# Altium integrated library BB Converter Analog to Digital.IntLib: 242 symbols (part 5 of 6)
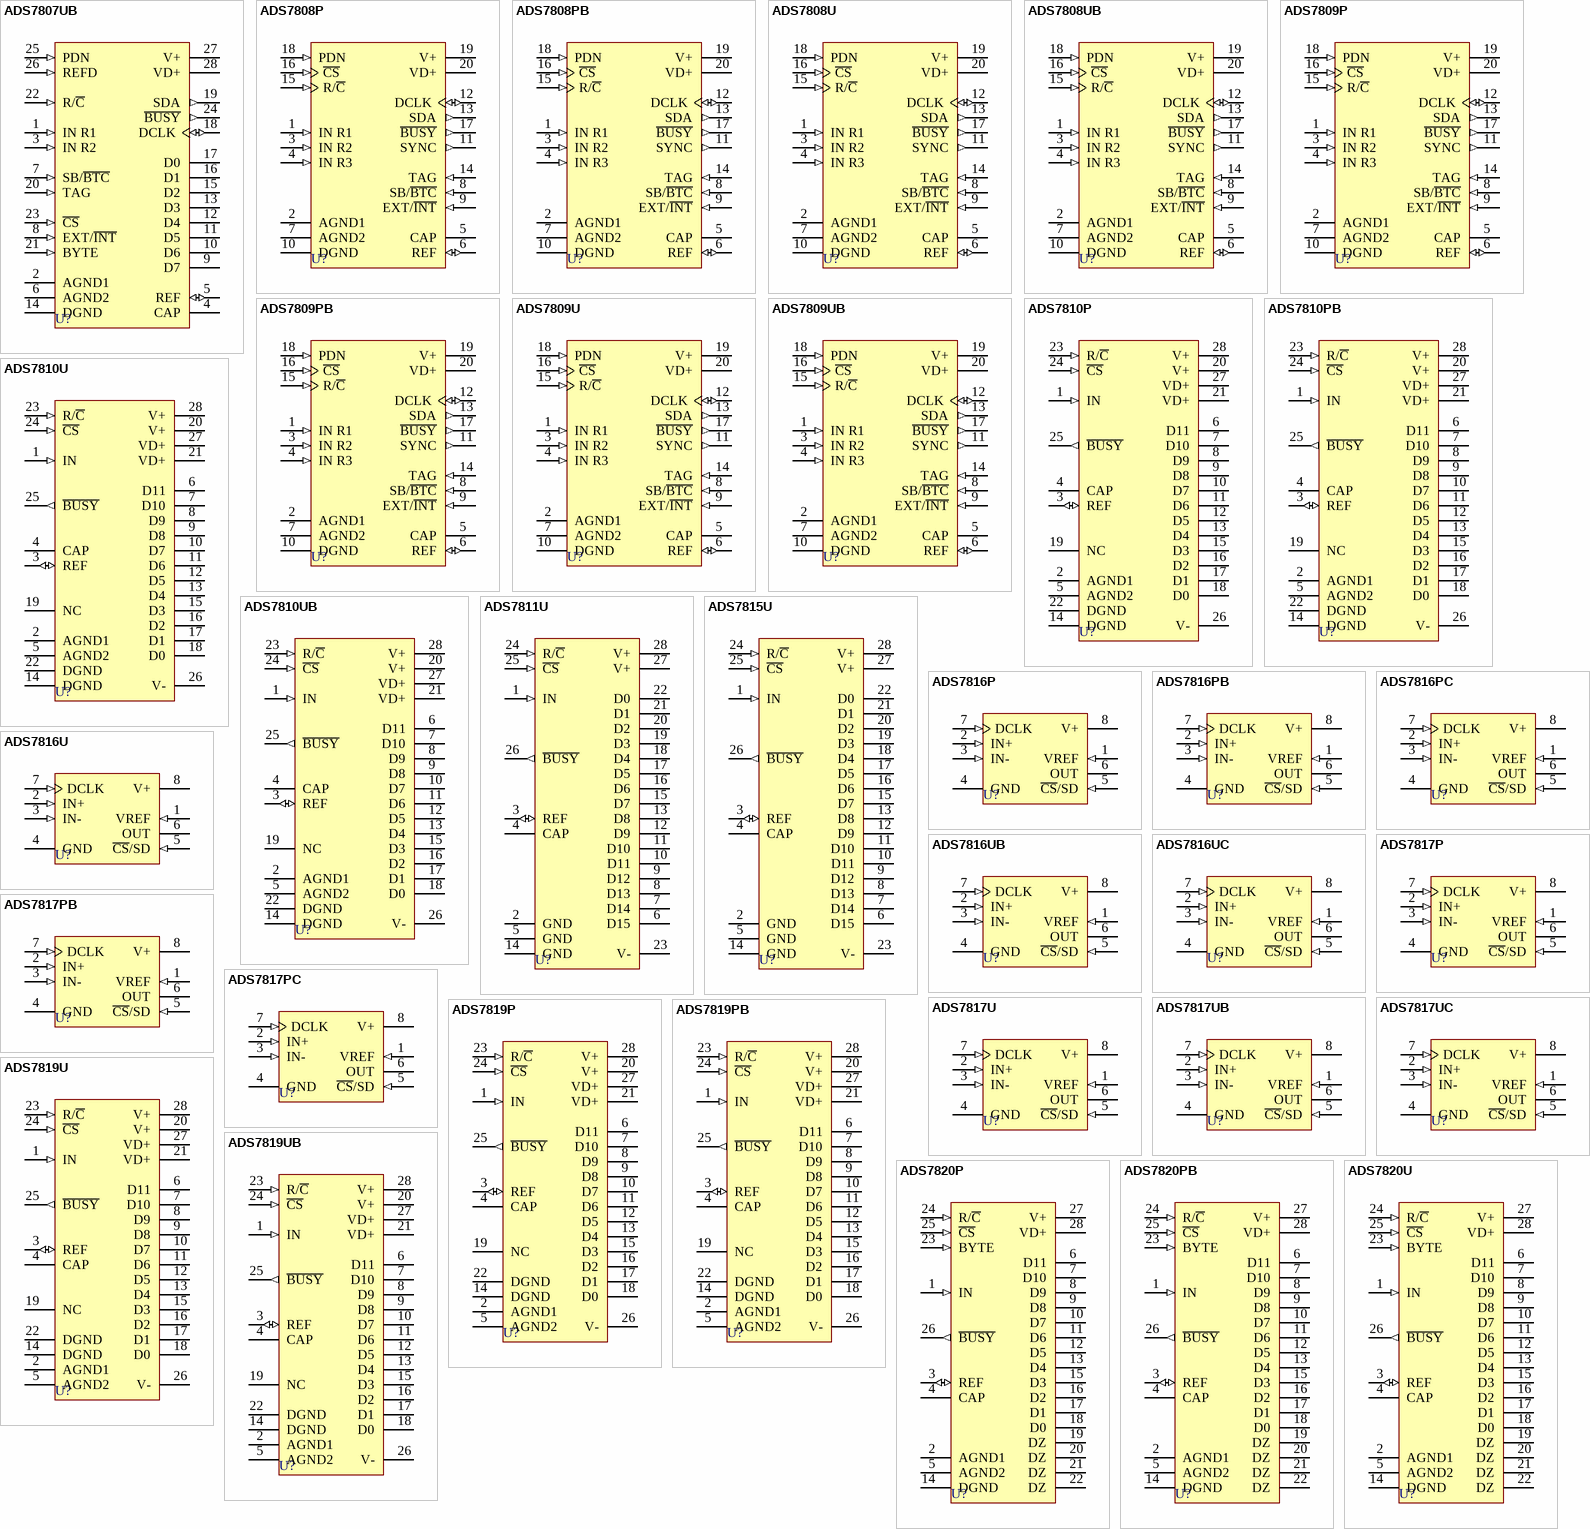
[diagram p13: symbols ADS7807UB to ADS7820U]

## ADS7817P
designator U?
12-Bit Differential Input Micro Power Sampling Analog-to-Digital Converter; Published: 8-Jun-2000; LatestRevisionDate: 06-Jun-2005; LatestRevisionNote: Stylized 3D Model Added.; DatasheetVersion: Mar-1997; PackageVersion: revE; PackageReference: 006E; Publisher: Altium Limited; PackageDescription: DIP; 8 Leads; Row Spacing 7.62 mm; Pitch 2.54 mm; ComponentLink1Description: Manufacturer Link; ComponentLink1URL: http://www.ti.com/; ComponentLink2Description: Datasheet; ComponentLink2URL: http://www-s.ti.com/sc/ds/ADS7817.pdf
footprint 006E (DIP; 8 Leads; Row Spacing 7.62 mm; Pitch 2.54 mm)
3D model DIP8 (DIP; 8 Leads; Row Spacing 7.62 mm; Pitch 2.54 mm)
pins: 1 VREF (in), 2 IN+ (in), 3 IN- (in), 4 GND (power), 5 ~{CS}/SD (in), 6 OUT (hiz), 7 DCLK (in), 8 V+ (power)

## ADS7817PB
designator U?
12-Bit Differential Input Micro Power Sampling Analog-to-Digital Converter; Published: 8-Jun-2000; LatestRevisionDate: 06-Jun-2005; LatestRevisionNote: Stylized 3D Model Added.; DatasheetVersion: Mar-1997; PackageVersion: revE; PackageReference: 006E; Publisher: Altium Limited; PackageDescription: DIP; 8 Leads; Row Spacing 7.62 mm; Pitch 2.54 mm; ComponentLink1Description: Manufacturer Link; ComponentLink1URL: http://www.ti.com/; ComponentLink2Description: Datasheet; ComponentLink2URL: http://www-s.ti.com/sc/ds/ADS7817.pdf
footprint 006E (DIP; 8 Leads; Row Spacing 7.62 mm; Pitch 2.54 mm)
3D model DIP8 (DIP; 8 Leads; Row Spacing 7.62 mm; Pitch 2.54 mm)
pins: 1 VREF (in), 2 IN+ (in), 3 IN- (in), 4 GND (power), 5 ~{CS}/SD (in), 6 OUT (hiz), 7 DCLK (in), 8 V+ (power)

## ADS7817PC
designator U?
12-Bit Differential Input Micro Power Sampling Analog-to-Digital Converter; Published: 8-Jun-2000; LatestRevisionDate: 06-Jun-2005; LatestRevisionNote: Stylized 3D Model Added.; DatasheetVersion: Mar-1997; PackageVersion: revE; PackageReference: 006E; Publisher: Altium Limited; PackageDescription: DIP; 8 Leads; Row Spacing 7.62 mm; Pitch 2.54 mm; ComponentLink1Description: Manufacturer Link; ComponentLink1URL: http://www.ti.com/; ComponentLink2Description: Datasheet; ComponentLink2URL: http://www-s.ti.com/sc/ds/ADS7817.pdf
footprint 006E (DIP; 8 Leads; Row Spacing 7.62 mm; Pitch 2.54 mm)
3D model DIP8 (DIP; 8 Leads; Row Spacing 7.62 mm; Pitch 2.54 mm)
pins: 1 VREF (in), 2 IN+ (in), 3 IN- (in), 4 GND (power), 5 ~{CS}/SD (in), 6 OUT (hiz), 7 DCLK (in), 8 V+ (power)

## ADS7817U
designator U?
12-Bit Differential Input Micro Power Sampling Analog-to-Digital Converter; Published: 8-Jun-2000; LatestRevisionDate: 13-Apr-2006; LatestRevisionNote: IPC-7351 Footprint Added.; DatasheetVersion: Mar-1997; PackageReference: 182H; Publisher: Altium Limited; PackageDescription: 8-Pin Small Outline Integrated Circuit 1.27 mm Pitch; Code_JEDEC: MS-012-AA; Code_IPC: SOIC127P600-8; ComponentLink1Description: Manufacturer Link; ComponentLink1URL: http://www.ti.com/; ComponentLink2Description: Datasheet; ComponentLink2URL: http://www-s.ti.com/sc/ds/ADS7817.pdf
footprint 182H_N (SOIC, 8-Leads, Body 4.9x3.9mm, Pitch 1.27mm, IPC Medium Density)
footprint 182H_L (SOIC, 8-Leads, Body 4.9x3.9mm, Pitch 1.27mm, IPC High Density)
footprint 182H_M (SOIC, 8-Leads, Body 4.9x3.9mm, Pitch 1.27mm, IPC Low Density)
3D model SOIC8 (8-Pin Small Outline Integrated Circuit 1.27 mm Pitch)
pins: 1 VREF (in), 2 IN+ (in), 3 IN- (in), 4 GND (power), 5 ~{CS}/SD (in), 6 OUT (hiz), 7 DCLK (in), 8 V+ (power)

## ADS7817UB
designator U?
12-Bit Differential Input Micro Power Sampling Analog-to-Digital Converter; Published: 8-Jun-2000; LatestRevisionDate: 13-Apr-2006; LatestRevisionNote: IPC-7351 Footprint Added.; DatasheetVersion: Mar-1997; PackageReference: 182H; Publisher: Altium Limited; PackageDescription: 8-Pin Small Outline Integrated Circuit 1.27 mm Pitch; Code_JEDEC: MS-012-AA; Code_IPC: SOIC127P600-8; ComponentLink1Description: Manufacturer Link; ComponentLink1URL: http://www.ti.com/; ComponentLink2Description: Datasheet; ComponentLink2URL: http://www-s.ti.com/sc/ds/ADS7817.pdf
footprint 182H_N (SOIC, 8-Leads, Body 4.9x3.9mm, Pitch 1.27mm, IPC Medium Density)
footprint 182H_L (SOIC, 8-Leads, Body 4.9x3.9mm, Pitch 1.27mm, IPC High Density)
footprint 182H_M (SOIC, 8-Leads, Body 4.9x3.9mm, Pitch 1.27mm, IPC Low Density)
3D model SOIC8 (8-Pin Small Outline Integrated Circuit 1.27 mm Pitch)
pins: 1 VREF (in), 2 IN+ (in), 3 IN- (in), 4 GND (power), 5 ~{CS}/SD (in), 6 OUT (hiz), 7 DCLK (in), 8 V+ (power)

## ADS7817UC
designator U?
12-Bit Differential Input Micro Power Sampling Analog-to-Digital Converter; Published: 8-Jun-2000; LatestRevisionDate: 13-Apr-2006; LatestRevisionNote: IPC-7351 Footprint Added.; DatasheetVersion: Mar-1997; PackageReference: 182H; Publisher: Altium Limited; PackageDescription: 8-Pin Small Outline Integrated Circuit 1.27 mm Pitch; Code_JEDEC: MS-012-AA; Code_IPC: SOIC127P600-8; ComponentLink1Description: Manufacturer Link; ComponentLink1URL: http://www.ti.com/; ComponentLink2Description: Datasheet; ComponentLink2URL: http://www-s.ti.com/sc/ds/ADS7817.pdf
footprint 182H_N (SOIC, 8-Leads, Body 4.9x3.9mm, Pitch 1.27mm, IPC Medium Density)
footprint 182H_L (SOIC, 8-Leads, Body 4.9x3.9mm, Pitch 1.27mm, IPC High Density)
footprint 182H_M (SOIC, 8-Leads, Body 4.9x3.9mm, Pitch 1.27mm, IPC Low Density)
3D model SOIC8 (8-Pin Small Outline Integrated Circuit 1.27 mm Pitch)
pins: 1 VREF (in), 2 IN+ (in), 3 IN- (in), 4 GND (power), 5 ~{CS}/SD (in), 6 OUT (hiz), 7 DCLK (in), 8 V+ (power)

## ADS7819P
designator U?
12-Bit 800KHz Sampling CMOS Analog-to-Digital Converter; Note: Pin 19 is No internal Connection (NC) pin.; Published: 8-Jun-2000; LatestRevisionDate: 06-Jun-2005; LatestRevisionNote: Stylized 3D Model Added.; DatasheetVersion: Feb-1995; PackageVersion: revD; PackageReference: 246D; Publisher: Altium Limited; PackageDescription: DIP; 28 Leads; Row Spacing 7.62 mm; Pitch 2.54 mm; ComponentLink1Description: Manufacturer Link; ComponentLink1URL: http://www.ti.com/; ComponentLink2Description: Datasheet; ComponentLink2URL: http://www-s.ti.com/sc/ds/ADS7819.pdf
footprint 246D (DIP; 28 Leads; Row Spacing 7.62 mm; Pitch 2.54 mm)
3D model 246D (DIP; 28 Leads; Row Spacing 7.62 mm; Pitch 2.54 mm)
pins: 1 IN (in), 2 AGND1 (power), 3 REF (io), 4 CAP, 5 AGND2 (power), 6 D11 (hiz), 7 D10 (hiz), 8 D9 (hiz), 9 D8 (hiz), 10 D7 (hiz), 11 D6 (hiz), 12 D5 (hiz), 13 D4 (hiz), 14 DGND (power), 15 D3 (hiz), 16 D2 (hiz), 17 D1 (hiz), 18 D0 (hiz), 19 NC, 20 V+ (power), 21 VD+ (power), 22 DGND (power), 23 R/~{C} (in), 24 ~{CS} (in), 25 ~{BUSY} (out), 26 V- (power), 27 VD+ (power), 28 V+ (power)

## ADS7819PB
designator U?
12-Bit 800KHz Sampling CMOS Analog-to-Digital Converter; Note: Pin 19 is No internal Connection (NC) pin.; Published: 8-Jun-2000; LatestRevisionDate: 06-Jun-2005; LatestRevisionNote: Stylized 3D Model Added.; DatasheetVersion: Feb-1995; PackageVersion: revD; PackageReference: 246D; Publisher: Altium Limited; PackageDescription: DIP; 28 Leads; Row Spacing 7.62 mm; Pitch 2.54 mm; ComponentLink1Description: Manufacturer Link; ComponentLink1URL: http://www.ti.com/; ComponentLink2Description: Datasheet; ComponentLink2URL: http://www-s.ti.com/sc/ds/ADS7819.pdf
footprint 246D (DIP; 28 Leads; Row Spacing 7.62 mm; Pitch 2.54 mm)
3D model 246D (DIP; 28 Leads; Row Spacing 7.62 mm; Pitch 2.54 mm)
pins: 1 IN (in), 2 AGND1 (power), 3 REF (io), 4 CAP, 5 AGND2 (power), 6 D11 (hiz), 7 D10 (hiz), 8 D9 (hiz), 9 D8 (hiz), 10 D7 (hiz), 11 D6 (hiz), 12 D5 (hiz), 13 D4 (hiz), 14 DGND (power), 15 D3 (hiz), 16 D2 (hiz), 17 D1 (hiz), 18 D0 (hiz), 19 NC, 20 V+ (power), 21 VD+ (power), 22 DGND (power), 23 R/~{C} (in), 24 ~{CS} (in), 25 ~{BUSY} (out), 26 V- (power), 27 VD+ (power), 28 V+ (power)

## ADS7819U
designator U?
12-Bit 800KHz Sampling CMOS Analog-to-Digital Converter; Note: Pin 19 is No internal Connection (NC) pin.; Published: 8-Jun-2000; LatestRevisionDate: 13-Apr-2006; LatestRevisionNote: IPC-7351 Footprint Added.; DatasheetVersion: Feb-1995; PackageReference: 217G; Publisher: Altium Limited; PackageDescription: 28-Pin Small Outline Integrated Circuit 1.27 mm Pitch; ComponentLink1Description: Manufacturer Link; ComponentLink1URL: http://www.ti.com/; ComponentLink2Description: Datasheet; ComponentLink2URL: http://www-s.ti.com/sc/ds/ADS7819.pdf
footprint 217G_N (SOIC, 28-Leads, Body 17.9x7.5mm, Pitch 1.27mm, IPC Medium Density)
footprint 217G_L (SOIC, 28-Leads, Body 17.9x7.5mm, Pitch 1.27mm, IPC High Density)
footprint 217G_M (SOIC, 28-Leads, Body 17.9x7.5mm, Pitch 1.27mm, IPC Low Density)
3D model 217G (28-Pin Small Outline Integrated Circuit 1.27 mm Pitch)
pins: 1 IN (in), 2 AGND1 (power), 3 REF (io), 4 CAP, 5 AGND2 (power), 6 D11 (hiz), 7 D10 (hiz), 8 D9 (hiz), 9 D8 (hiz), 10 D7 (hiz), 11 D6 (hiz), 12 D5 (hiz), 13 D4 (hiz), 14 DGND (power), 15 D3 (hiz), 16 D2 (hiz), 17 D1 (hiz), 18 D0 (hiz), 19 NC, 20 V+ (power), 21 VD+ (power), 22 DGND (power), 23 R/~{C} (in), 24 ~{CS} (in), 25 ~{BUSY} (out), 26 V- (power), 27 VD+ (power), 28 V+ (power)

## ADS7819UB
designator U?
12-Bit 800KHz Sampling CMOS Analog-to-Digital Converter; Note: Pin 19 is No internal Connection (NC) pin.; Published: 8-Jun-2000; LatestRevisionDate: 13-Apr-2006; LatestRevisionNote: IPC-7351 Footprint Added.; DatasheetVersion: Feb-1995; PackageReference: 217G; Publisher: Altium Limited; PackageDescription: 28-Pin Small Outline Integrated Circuit 1.27 mm Pitch; ComponentLink1Description: Manufacturer Link; ComponentLink1URL: http://www.ti.com/; ComponentLink2Description: Datasheet; ComponentLink2URL: http://www-s.ti.com/sc/ds/ADS7819.pdf
footprint 217G_N (SOIC, 28-Leads, Body 17.9x7.5mm, Pitch 1.27mm, IPC Medium Density)
footprint 217G_L (SOIC, 28-Leads, Body 17.9x7.5mm, Pitch 1.27mm, IPC High Density)
footprint 217G_M (SOIC, 28-Leads, Body 17.9x7.5mm, Pitch 1.27mm, IPC Low Density)
3D model 217G (28-Pin Small Outline Integrated Circuit 1.27 mm Pitch)
pins: 1 IN (in), 2 AGND1 (power), 3 REF (io), 4 CAP, 5 AGND2 (power), 6 D11 (hiz), 7 D10 (hiz), 8 D9 (hiz), 9 D8 (hiz), 10 D7 (hiz), 11 D6 (hiz), 12 D5 (hiz), 13 D4 (hiz), 14 DGND (power), 15 D3 (hiz), 16 D2 (hiz), 17 D1 (hiz), 18 D0 (hiz), 19 NC, 20 V+ (power), 21 VD+ (power), 22 DGND (power), 23 R/~{C} (in), 24 ~{CS} (in), 25 ~{BUSY} (out), 26 V- (power), 27 VD+ (power), 28 V+ (power)

## ADS7820P
designator U?
12-Bit 10us Sampling CMOS Analog-to-Digital Converter; Published: 8-Jun-2000; LatestRevisionDate: 06-Jun-2005; LatestRevisionNote: Stylized 3D Model Added.; DatasheetVersion: Jun-1996; PackageVersion: revD; PackageReference: 246D; Publisher: Altium Limited; PackageDescription: DIP; 28 Leads; Row Spacing 7.62 mm; Pitch 2.54 mm; ComponentLink1Description: Manufacturer Link; ComponentLink1URL: http://www.ti.com/; ComponentLink2Description: Datasheet; ComponentLink2URL: http://www-s.ti.com/sc/ds/ADS7820.pdf
footprint 246D (DIP; 28 Leads; Row Spacing 7.62 mm; Pitch 2.54 mm)
3D model 246D (DIP; 28 Leads; Row Spacing 7.62 mm; Pitch 2.54 mm)
pins: 1 IN (in), 2 AGND1 (power), 3 REF (io), 4 CAP, 5 AGND2 (power), 6 D11 (hiz), 7 D10 (hiz), 8 D9 (hiz), 9 D8 (hiz), 10 D7 (hiz), 11 D6 (hiz), 12 D5 (hiz), 13 D4 (hiz), 14 DGND (power), 15 D3 (hiz), 16 D2 (hiz), 17 D1 (hiz), 18 D0 (hiz), 19 DZ (hiz), 20 DZ (hiz), 21 DZ (hiz), 22 DZ (hiz), 23 BYTE (in), 24 R/~{C} (in), 25 ~{CS} (in), 26 ~{BUSY} (out), 27 V+ (power), 28 VD+ (power)

## ADS7820PB
designator U?
12-Bit 10us Sampling CMOS Analog-to-Digital Converter; Published: 8-Jun-2000; LatestRevisionDate: 06-Jun-2005; LatestRevisionNote: Stylized 3D Model Added.; DatasheetVersion: Jun-1996; PackageVersion: revD; PackageReference: 246D; Publisher: Altium Limited; PackageDescription: DIP; 28 Leads; Row Spacing 7.62 mm; Pitch 2.54 mm; ComponentLink1Description: Manufacturer Link; ComponentLink1URL: http://www.ti.com/; ComponentLink2Description: Datasheet; ComponentLink2URL: http://www-s.ti.com/sc/ds/ADS7820.pdf
footprint 246D (DIP; 28 Leads; Row Spacing 7.62 mm; Pitch 2.54 mm)
3D model 246D (DIP; 28 Leads; Row Spacing 7.62 mm; Pitch 2.54 mm)
pins: 1 IN (in), 2 AGND1 (power), 3 REF (io), 4 CAP, 5 AGND2 (power), 6 D11 (hiz), 7 D10 (hiz), 8 D9 (hiz), 9 D8 (hiz), 10 D7 (hiz), 11 D6 (hiz), 12 D5 (hiz), 13 D4 (hiz), 14 DGND (power), 15 D3 (hiz), 16 D2 (hiz), 17 D1 (hiz), 18 D0 (hiz), 19 DZ (hiz), 20 DZ (hiz), 21 DZ (hiz), 22 DZ (hiz), 23 BYTE (in), 24 R/~{C} (in), 25 ~{CS} (in), 26 ~{BUSY} (out), 27 V+ (power), 28 VD+ (power)

## ADS7820U
designator U?
12-Bit 10us Sampling CMOS Analog-to-Digital Converter; Published: 8-Jun-2000; LatestRevisionDate: 13-Apr-2006; LatestRevisionNote: IPC-7351 Footprint Added.; DatasheetVersion: Jun-1996; PackageReference: 217G; Publisher: Altium Limited; PackageDescription: 28-Pin Small Outline Integrated Circuit 1.27 mm Pitch; ComponentLink1Description: Manufacturer Link; ComponentLink1URL: http://www.ti.com/; ComponentLink2Description: Datasheet; ComponentLink2URL: http://www-s.ti.com/sc/ds/ADS7820.pdf
footprint 217G_N (SOIC, 28-Leads, Body 17.9x7.5mm, Pitch 1.27mm, IPC Medium Density)
footprint 217G_L (SOIC, 28-Leads, Body 17.9x7.5mm, Pitch 1.27mm, IPC High Density)
footprint 217G_M (SOIC, 28-Leads, Body 17.9x7.5mm, Pitch 1.27mm, IPC Low Density)
3D model 217G (28-Pin Small Outline Integrated Circuit 1.27 mm Pitch)
pins: 1 IN (in), 2 AGND1 (power), 3 REF (io), 4 CAP, 5 AGND2 (power), 6 D11 (hiz), 7 D10 (hiz), 8 D9 (hiz), 9 D8 (hiz), 10 D7 (hiz), 11 D6 (hiz), 12 D5 (hiz), 13 D4 (hiz), 14 DGND (power), 15 D3 (hiz), 16 D2 (hiz), 17 D1 (hiz), 18 D0 (hiz), 19 DZ (hiz), 20 DZ (hiz), 21 DZ (hiz), 22 DZ (hiz), 23 BYTE (in), 24 R/~{C} (in), 25 ~{CS} (in), 26 ~{BUSY} (out), 27 V+ (power), 28 VD+ (power)

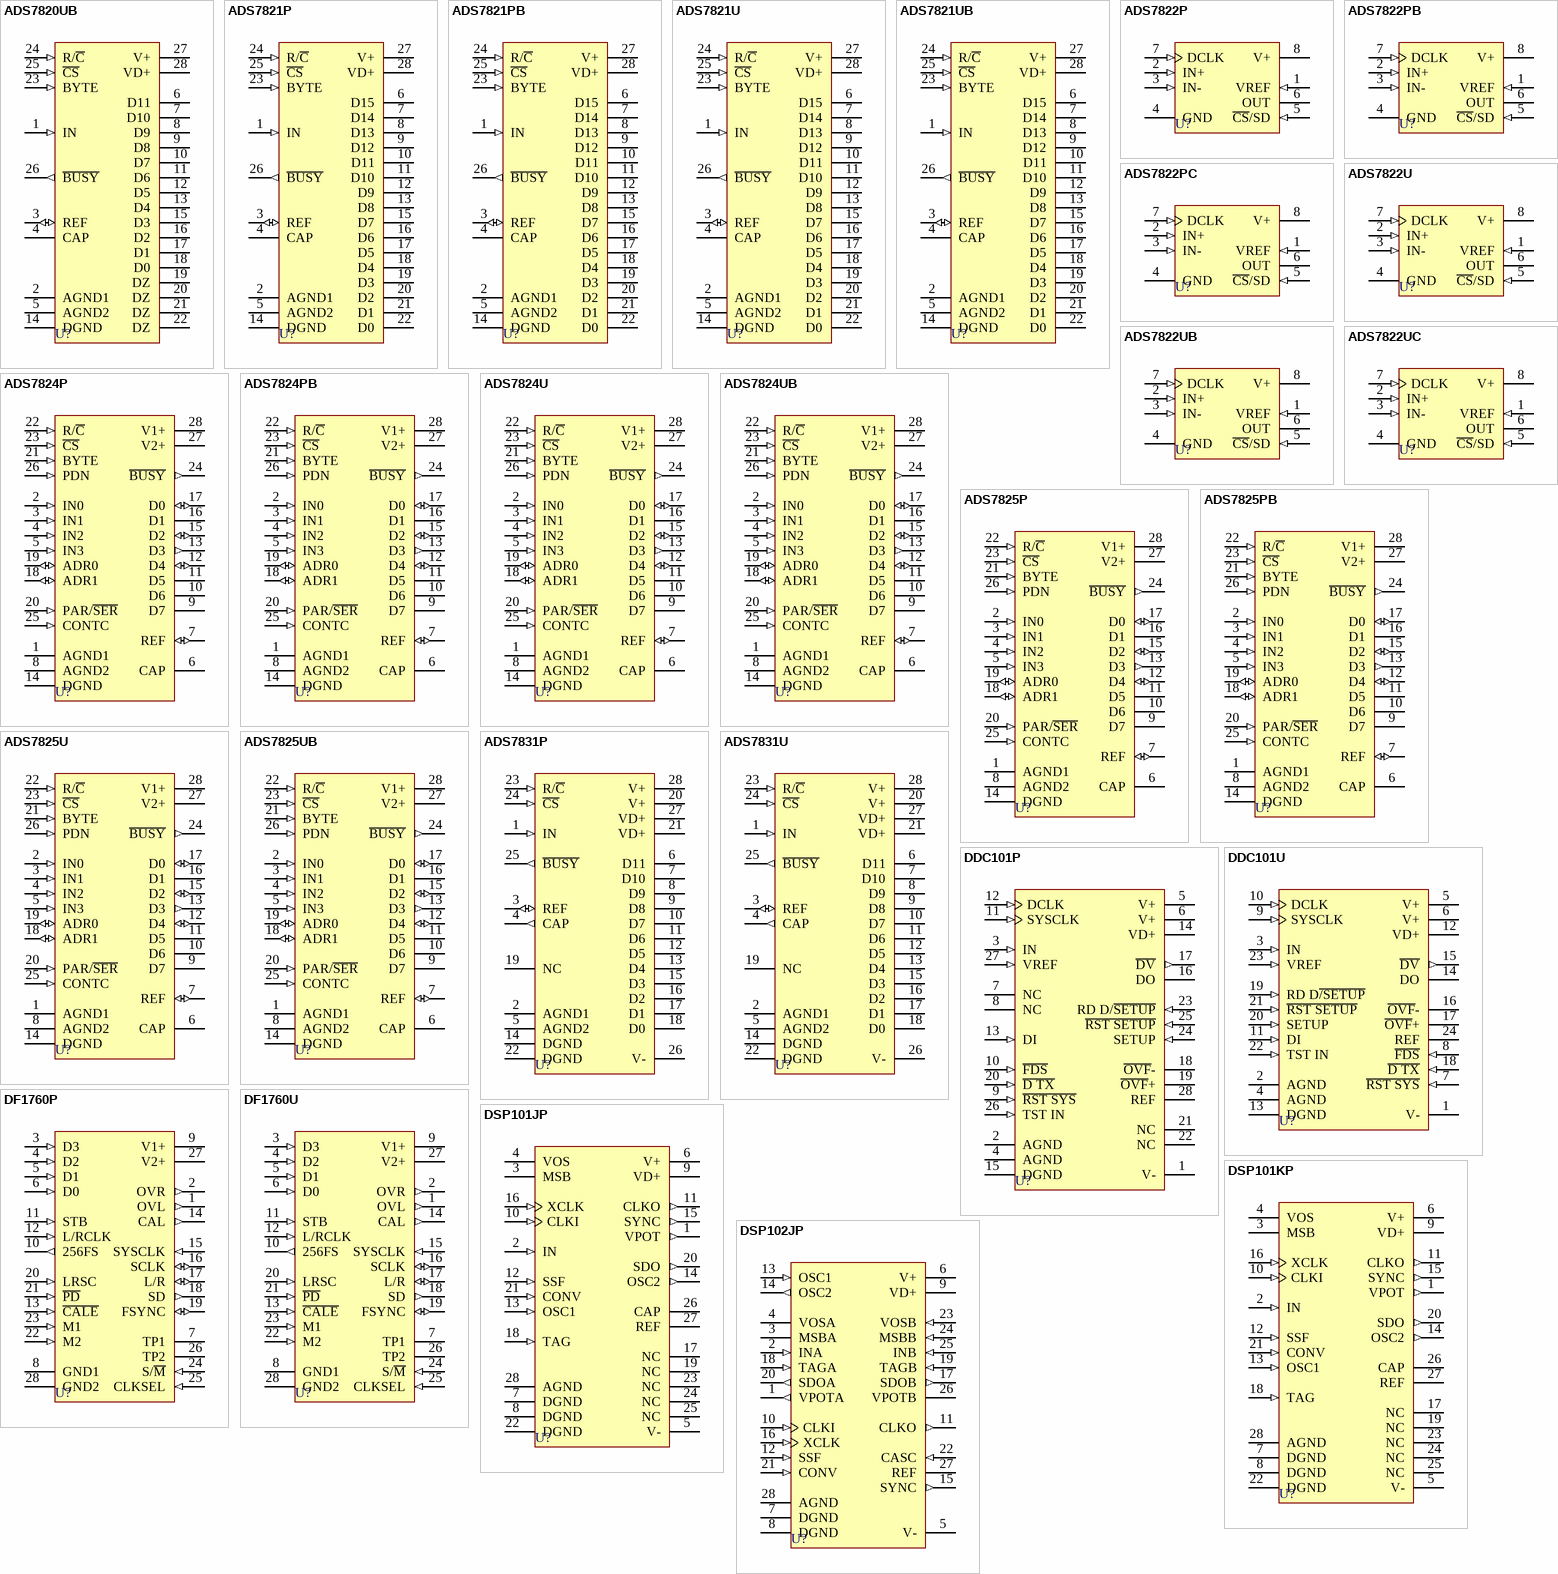
[diagram p8: symbols ADS7820UB to DSP102JP]

## ADS7820UB
designator U?
12-Bit 10us Sampling CMOS Analog-to-Digital Converter; Published: 8-Jun-2000; LatestRevisionDate: 13-Apr-2006; LatestRevisionNote: IPC-7351 Footprint Added.; DatasheetVersion: Jun-1996; PackageReference: 217G; Publisher: Altium Limited; PackageDescription: 28-Pin Small Outline Integrated Circuit 1.27 mm Pitch; ComponentLink1Description: Manufacturer Link; ComponentLink1URL: http://www.ti.com/; ComponentLink2Description: Datasheet; ComponentLink2URL: http://www-s.ti.com/sc/ds/ADS7820.pdf
footprint 217G_N (SOIC, 28-Leads, Body 17.9x7.5mm, Pitch 1.27mm, IPC Medium Density)
footprint 217G_L (SOIC, 28-Leads, Body 17.9x7.5mm, Pitch 1.27mm, IPC High Density)
footprint 217G_M (SOIC, 28-Leads, Body 17.9x7.5mm, Pitch 1.27mm, IPC Low Density)
3D model 217G (28-Pin Small Outline Integrated Circuit 1.27 mm Pitch)
pins: 1 IN (in), 2 AGND1 (power), 3 REF (io), 4 CAP, 5 AGND2 (power), 6 D11 (hiz), 7 D10 (hiz), 8 D9 (hiz), 9 D8 (hiz), 10 D7 (hiz), 11 D6 (hiz), 12 D5 (hiz), 13 D4 (hiz), 14 DGND (power), 15 D3 (hiz), 16 D2 (hiz), 17 D1 (hiz), 18 D0 (hiz), 19 DZ (hiz), 20 DZ (hiz), 21 DZ (hiz), 22 DZ (hiz), 23 BYTE (in), 24 R/~{C} (in), 25 ~{CS} (in), 26 ~{BUSY} (out), 27 V+ (power), 28 VD+ (power)

## ADS7821P
designator U?
16-Bit 10us Sampling CMOS Analog-to-Digital Converter; Published: 8-Jun-2000; LatestRevisionDate: 06-Jun-2005; LatestRevisionNote: Stylized 3D Model Added.; DatasheetVersion: Jun-1996; PackageVersion: revD; PackageReference: 246D; Publisher: Altium Limited; PackageDescription: DIP; 28 Leads; Row Spacing 7.62 mm; Pitch 2.54 mm; ComponentLink1Description: Manufacturer Link; ComponentLink1URL: http://www.ti.com/; ComponentLink2Description: Datasheet; ComponentLink2URL: http://www-s.ti.com/sc/ds/ADS7821.pdf
footprint 246D (DIP; 28 Leads; Row Spacing 7.62 mm; Pitch 2.54 mm)
3D model 246D (DIP; 28 Leads; Row Spacing 7.62 mm; Pitch 2.54 mm)
pins: 1 IN (in), 2 AGND1 (power), 3 REF (io), 4 CAP, 5 AGND2 (power), 6 D15 (hiz), 7 D14 (hiz), 8 D13 (hiz), 9 D12 (hiz), 10 D11 (hiz), 11 D10 (hiz), 12 D9 (hiz), 13 D8 (hiz), 14 DGND (power), 15 D7 (hiz), 16 D6 (hiz), 17 D5 (hiz), 18 D4 (hiz), 19 D3 (hiz), 20 D2 (hiz), 21 D1 (hiz), 22 D0 (hiz), 23 BYTE (in), 24 R/~{C} (in), 25 ~{CS} (in), 26 ~{BUSY} (out), 27 V+ (power), 28 VD+ (power)

## ADS7821PB
designator U?
16-Bit 10us Sampling CMOS Analog-to-Digital Converter; Published: 8-Jun-2000; LatestRevisionDate: 06-Jun-2005; LatestRevisionNote: Stylized 3D Model Added.; DatasheetVersion: Jun-1996; PackageVersion: revD; PackageReference: 246D; Publisher: Altium Limited; PackageDescription: DIP; 28 Leads; Row Spacing 7.62 mm; Pitch 2.54 mm; ComponentLink1Description: Manufacturer Link; ComponentLink1URL: http://www.ti.com/; ComponentLink2Description: Datasheet; ComponentLink2URL: http://www-s.ti.com/sc/ds/ADS7821.pdf
footprint 246D (DIP; 28 Leads; Row Spacing 7.62 mm; Pitch 2.54 mm)
3D model 246D (DIP; 28 Leads; Row Spacing 7.62 mm; Pitch 2.54 mm)
pins: 1 IN (in), 2 AGND1 (power), 3 REF (io), 4 CAP, 5 AGND2 (power), 6 D15 (hiz), 7 D14 (hiz), 8 D13 (hiz), 9 D12 (hiz), 10 D11 (hiz), 11 D10 (hiz), 12 D9 (hiz), 13 D8 (hiz), 14 DGND (power), 15 D7 (hiz), 16 D6 (hiz), 17 D5 (hiz), 18 D4 (hiz), 19 D3 (hiz), 20 D2 (hiz), 21 D1 (hiz), 22 D0 (hiz), 23 BYTE (in), 24 R/~{C} (in), 25 ~{CS} (in), 26 ~{BUSY} (out), 27 V+ (power), 28 VD+ (power)

## ADS7821U
designator U?
16-Bit 10us Sampling CMOS Analog-to-Digital Converter; Published: 8-Jun-2000; LatestRevisionDate: 13-Apr-2006; LatestRevisionNote: IPC-7351 Footprint Added.; DatasheetVersion: Jun-1996; PackageReference: 217G; Publisher: Altium Limited; PackageDescription: 28-Pin Small Outline Integrated Circuit 1.27 mm Pitch; ComponentLink1Description: Manufacturer Link; ComponentLink1URL: http://www.ti.com/; ComponentLink2Description: Datasheet; ComponentLink2URL: http://www-s.ti.com/sc/ds/ADS7821.pdf
footprint 217G_N (SOIC, 28-Leads, Body 17.9x7.5mm, Pitch 1.27mm, IPC Medium Density)
footprint 217G_L (SOIC, 28-Leads, Body 17.9x7.5mm, Pitch 1.27mm, IPC High Density)
footprint 217G_M (SOIC, 28-Leads, Body 17.9x7.5mm, Pitch 1.27mm, IPC Low Density)
3D model 217G (28-Pin Small Outline Integrated Circuit 1.27 mm Pitch)
pins: 1 IN (in), 2 AGND1 (power), 3 REF (io), 4 CAP, 5 AGND2 (power), 6 D15 (hiz), 7 D14 (hiz), 8 D13 (hiz), 9 D12 (hiz), 10 D11 (hiz), 11 D10 (hiz), 12 D9 (hiz), 13 D8 (hiz), 14 DGND (power), 15 D7 (hiz), 16 D6 (hiz), 17 D5 (hiz), 18 D4 (hiz), 19 D3 (hiz), 20 D2 (hiz), 21 D1 (hiz), 22 D0 (hiz), 23 BYTE (in), 24 R/~{C} (in), 25 ~{CS} (in), 26 ~{BUSY} (out), 27 V+ (power), 28 VD+ (power)

## ADS7821UB
designator U?
16-Bit 10us Sampling CMOS Analog-to-Digital Converter; Published: 8-Jun-2000; LatestRevisionDate: 13-Apr-2006; LatestRevisionNote: IPC-7351 Footprint Added.; DatasheetVersion: Jun-1996; PackageReference: 217G; Publisher: Altium Limited; PackageDescription: 28-Pin Small Outline Integrated Circuit 1.27 mm Pitch; ComponentLink1Description: Manufacturer Link; ComponentLink1URL: http://www.ti.com/; ComponentLink2Description: Datasheet; ComponentLink2URL: http://www-s.ti.com/sc/ds/ADS7821.pdf
footprint 217G_N (SOIC, 28-Leads, Body 17.9x7.5mm, Pitch 1.27mm, IPC Medium Density)
footprint 217G_L (SOIC, 28-Leads, Body 17.9x7.5mm, Pitch 1.27mm, IPC High Density)
footprint 217G_M (SOIC, 28-Leads, Body 17.9x7.5mm, Pitch 1.27mm, IPC Low Density)
3D model 217G (28-Pin Small Outline Integrated Circuit 1.27 mm Pitch)
pins: 1 IN (in), 2 AGND1 (power), 3 REF (io), 4 CAP, 5 AGND2 (power), 6 D15 (hiz), 7 D14 (hiz), 8 D13 (hiz), 9 D12 (hiz), 10 D11 (hiz), 11 D10 (hiz), 12 D9 (hiz), 13 D8 (hiz), 14 DGND (power), 15 D7 (hiz), 16 D6 (hiz), 17 D5 (hiz), 18 D4 (hiz), 19 D3 (hiz), 20 D2 (hiz), 21 D1 (hiz), 22 D0 (hiz), 23 BYTE (in), 24 R/~{C} (in), 25 ~{CS} (in), 26 ~{BUSY} (out), 27 V+ (power), 28 VD+ (power)

## ADS7822P
designator U?
12-Bit High-Speed 2.7V Micro Power Sampling Analog-to-Digital Converter; Published: 8-Jun-2000; LatestRevisionDate: 06-Jun-2005; LatestRevisionNote: Stylized 3D Model Added.; DatasheetVersion: Mar-1997; PackageVersion: revE; PackageReference: 006E; Publisher: Altium Limited; PackageDescription: DIP; 8 Leads; Row Spacing 7.62 mm; Pitch 2.54 mm; ComponentLink1Description: Manufacturer Link; ComponentLink1URL: http://www.ti.com/; ComponentLink2Description: Datasheet; ComponentLink2URL: http://www-s.ti.com/sc/ds/ADS7822.pdf
footprint 006E (DIP; 8 Leads; Row Spacing 7.62 mm; Pitch 2.54 mm)
3D model DIP8 (DIP; 8 Leads; Row Spacing 7.62 mm; Pitch 2.54 mm)
pins: 1 VREF (in), 2 IN+ (in), 3 IN- (in), 4 GND (power), 5 ~{CS}/SD (in), 6 OUT (hiz), 7 DCLK (in), 8 V+ (power)

## ADS7822PB
designator U?
12-Bit High-Speed 2.7V Micro Power Sampling Analog-to-Digital Converter; Published: 8-Jun-2000; LatestRevisionDate: 06-Jun-2005; LatestRevisionNote: Stylized 3D Model Added.; DatasheetVersion: Mar-1997; PackageVersion: revE; PackageReference: 006E; Publisher: Altium Limited; PackageDescription: DIP; 8 Leads; Row Spacing 7.62 mm; Pitch 2.54 mm; ComponentLink1Description: Manufacturer Link; ComponentLink1URL: http://www.ti.com/; ComponentLink2Description: Datasheet; ComponentLink2URL: http://www-s.ti.com/sc/ds/ADS7822.pdf
footprint 006E (DIP; 8 Leads; Row Spacing 7.62 mm; Pitch 2.54 mm)
3D model DIP8 (DIP; 8 Leads; Row Spacing 7.62 mm; Pitch 2.54 mm)
pins: 1 VREF (in), 2 IN+ (in), 3 IN- (in), 4 GND (power), 5 ~{CS}/SD (in), 6 OUT (hiz), 7 DCLK (in), 8 V+ (power)

## ADS7822PC
designator U?
12-Bit High-Speed 2.7V Micro Power Sampling Analog-to-Digital Converter; Published: 8-Jun-2000; LatestRevisionDate: 06-Jun-2005; LatestRevisionNote: Stylized 3D Model Added.; DatasheetVersion: Mar-1997; PackageVersion: revE; PackageReference: 006E; Publisher: Altium Limited; PackageDescription: DIP; 8 Leads; Row Spacing 7.62 mm; Pitch 2.54 mm; ComponentLink1Description: Manufacturer Link; ComponentLink1URL: http://www.ti.com/; ComponentLink2Description: Datasheet; ComponentLink2URL: http://www-s.ti.com/sc/ds/ADS7822.pdf
footprint 006E (DIP; 8 Leads; Row Spacing 7.62 mm; Pitch 2.54 mm)
3D model DIP8 (DIP; 8 Leads; Row Spacing 7.62 mm; Pitch 2.54 mm)
pins: 1 VREF (in), 2 IN+ (in), 3 IN- (in), 4 GND (power), 5 ~{CS}/SD (in), 6 OUT (hiz), 7 DCLK (in), 8 V+ (power)

## ADS7822U
designator U?
12-Bit High-Speed 2.7V Micro Power Sampling Analog-to-Digital Converter; Published: 8-Jun-2000; LatestRevisionDate: 13-Apr-2006; LatestRevisionNote: IPC-7351 Footprint Added.; DatasheetVersion: Mar-1997; PackageReference: 182H; Publisher: Altium Limited; PackageDescription: 8-Pin Small Outline Integrated Circuit 1.27 mm Pitch; Code_JEDEC: MS-012-AA; Code_IPC: SOIC127P600-8; ComponentLink1Description: Manufacturer Link; ComponentLink1URL: http://www.ti.com/; ComponentLink2Description: Datasheet; ComponentLink2URL: http://www-s.ti.com/sc/ds/ADS7822.pdf
footprint 182H_N (SOIC, 8-Leads, Body 4.9x3.9mm, Pitch 1.27mm, IPC Medium Density)
footprint 182H_L (SOIC, 8-Leads, Body 4.9x3.9mm, Pitch 1.27mm, IPC High Density)
footprint 182H_M (SOIC, 8-Leads, Body 4.9x3.9mm, Pitch 1.27mm, IPC Low Density)
3D model SOIC8 (8-Pin Small Outline Integrated Circuit 1.27 mm Pitch)
pins: 1 VREF (in), 2 IN+ (in), 3 IN- (in), 4 GND (power), 5 ~{CS}/SD (in), 6 OUT (hiz), 7 DCLK (in), 8 V+ (power)

## ADS7822UB
designator U?
12-Bit High-Speed 2.7V Micro Power Sampling Analog-to-Digital Converter; Published: 8-Jun-2000; LatestRevisionDate: 13-Apr-2006; LatestRevisionNote: IPC-7351 Footprint Added.; DatasheetVersion: Mar-1997; PackageReference: 182H; Publisher: Altium Limited; PackageDescription: 8-Pin Small Outline Integrated Circuit 1.27 mm Pitch; Code_JEDEC: MS-012-AA; Code_IPC: SOIC127P600-8; ComponentLink1Description: Manufacturer Link; ComponentLink1URL: http://www.ti.com/; ComponentLink2Description: Datasheet; ComponentLink2URL: http://www-s.ti.com/sc/ds/ADS7822.pdf
footprint 182H_N (SOIC, 8-Leads, Body 4.9x3.9mm, Pitch 1.27mm, IPC Medium Density)
footprint 182H_L (SOIC, 8-Leads, Body 4.9x3.9mm, Pitch 1.27mm, IPC High Density)
footprint 182H_M (SOIC, 8-Leads, Body 4.9x3.9mm, Pitch 1.27mm, IPC Low Density)
3D model SOIC8 (8-Pin Small Outline Integrated Circuit 1.27 mm Pitch)
pins: 1 VREF (in), 2 IN+ (in), 3 IN- (in), 4 GND (power), 5 ~{CS}/SD (in), 6 OUT (hiz), 7 DCLK (in), 8 V+ (power)

## ADS7822UC
designator U?
12-Bit High-Speed 2.7V Micro Power Sampling Analog-to-Digital Converter; Published: 8-Jun-2000; LatestRevisionDate: 13-Apr-2006; LatestRevisionNote: IPC-7351 Footprint Added.; DatasheetVersion: Mar-1997; PackageReference: 182H; Publisher: Altium Limited; PackageDescription: 8-Pin Small Outline Integrated Circuit 1.27 mm Pitch; Code_JEDEC: MS-012-AA; Code_IPC: SOIC127P600-8; ComponentLink1Description: Manufacturer Link; ComponentLink1URL: http://www.ti.com/; ComponentLink2Description: Datasheet; ComponentLink2URL: http://www-s.ti.com/sc/ds/ADS7822.pdf
footprint 182H_N (SOIC, 8-Leads, Body 4.9x3.9mm, Pitch 1.27mm, IPC Medium Density)
footprint 182H_L (SOIC, 8-Leads, Body 4.9x3.9mm, Pitch 1.27mm, IPC High Density)
footprint 182H_M (SOIC, 8-Leads, Body 4.9x3.9mm, Pitch 1.27mm, IPC Low Density)
3D model SOIC8 (8-Pin Small Outline Integrated Circuit 1.27 mm Pitch)
pins: 1 VREF (in), 2 IN+ (in), 3 IN- (in), 4 GND (power), 5 ~{CS}/SD (in), 6 OUT (hiz), 7 DCLK (in), 8 V+ (power)

## ADS7824P
designator U?
4 Channel, 12-Bit Sampling CMOS A/D Converter; Published: 8-Jun-2000; LatestRevisionDate: 06-Jun-2005; LatestRevisionNote: Stylized 3D Model Added.; DatasheetVersion: Oct-1997; PackageVersion: revD; PackageReference: 246D; Publisher: Altium Limited; PackageDescription: DIP; 28 Leads; Row Spacing 7.62 mm; Pitch 2.54 mm; ComponentLink1Description: Manufacturer Link; ComponentLink1URL: http://www.ti.com/; ComponentLink2Description: Datasheet; ComponentLink2URL: http://www-s.ti.com/sc/ds/ADS7824.pdf
footprint 246D (DIP; 28 Leads; Row Spacing 7.62 mm; Pitch 2.54 mm)
3D model 246D (DIP; 28 Leads; Row Spacing 7.62 mm; Pitch 2.54 mm)
pins: 1 AGND1 (power), 2 IN0 (in), 3 IN1 (in), 4 IN2 (in), 5 IN3 (in), 6 CAP, 7 REF (io), 8 AGND2 (power), 9 D7 (hiz), 10 D6 (hiz), 11 D5 (hiz), 12 D4 (io), 13 D3 (out), 14 DGND (power), 15 D2 (io), 16 D1 (hiz), 17 D0 (io), 18 ADR1 (io), 19 ADR0 (io), 20 PAR/~{SER} (in), 21 BYTE (in), 22 R/~{C} (in), 23 ~{CS} (in), 24 ~{BUSY} (out), 25 CONTC (in), 26 PDN (in), 27 V2+ (power), 28 V1+ (power)

## ADS7824PB
designator U?
4 Channel, 12-Bit Sampling CMOS A/D Converter; Published: 8-Jun-2000; LatestRevisionDate: 06-Jun-2005; LatestRevisionNote: Stylized 3D Model Added.; DatasheetVersion: Oct-1997; PackageVersion: revD; PackageReference: 246D; Publisher: Altium Limited; PackageDescription: DIP; 28 Leads; Row Spacing 7.62 mm; Pitch 2.54 mm; ComponentLink1Description: Manufacturer Link; ComponentLink1URL: http://www.ti.com/; ComponentLink2Description: Datasheet; ComponentLink2URL: http://www-s.ti.com/sc/ds/ADS7824.pdf
footprint 246D (DIP; 28 Leads; Row Spacing 7.62 mm; Pitch 2.54 mm)
3D model 246D (DIP; 28 Leads; Row Spacing 7.62 mm; Pitch 2.54 mm)
pins: 1 AGND1 (power), 2 IN0 (in), 3 IN1 (in), 4 IN2 (in), 5 IN3 (in), 6 CAP, 7 REF (io), 8 AGND2 (power), 9 D7 (hiz), 10 D6 (hiz), 11 D5 (hiz), 12 D4 (io), 13 D3 (out), 14 DGND (power), 15 D2 (io), 16 D1 (hiz), 17 D0 (io), 18 ADR1 (io), 19 ADR0 (io), 20 PAR/~{SER} (in), 21 BYTE (in), 22 R/~{C} (in), 23 ~{CS} (in), 24 ~{BUSY} (out), 25 CONTC (in), 26 PDN (in), 27 V2+ (power), 28 V1+ (power)

## ADS7824U
designator U?
4 Channel, 12-Bit Sampling CMOS A/D Converter; Published: 8-Jun-2000; LatestRevisionDate: 13-Apr-2006; LatestRevisionNote: IPC-7351 Footprint Added.; DatasheetVersion: Oct-1997; PackageReference: 217G; Publisher: Altium Limited; PackageDescription: 28-Pin Small Outline Integrated Circuit 1.27 mm Pitch; ComponentLink1Description: Manufacturer Link; ComponentLink1URL: http://www.ti.com/; ComponentLink2Description: Datasheet; ComponentLink2URL: http://www-s.ti.com/sc/ds/ADS7824.pdf
footprint 217G_N (SOIC, 28-Leads, Body 17.9x7.5mm, Pitch 1.27mm, IPC Medium Density)
footprint 217G_L (SOIC, 28-Leads, Body 17.9x7.5mm, Pitch 1.27mm, IPC High Density)
footprint 217G_M (SOIC, 28-Leads, Body 17.9x7.5mm, Pitch 1.27mm, IPC Low Density)
3D model 217G (28-Pin Small Outline Integrated Circuit 1.27 mm Pitch)
pins: 1 AGND1 (power), 2 IN0 (in), 3 IN1 (in), 4 IN2 (in), 5 IN3 (in), 6 CAP, 7 REF (io), 8 AGND2 (power), 9 D7 (hiz), 10 D6 (hiz), 11 D5 (hiz), 12 D4 (io), 13 D3 (out), 14 DGND (power), 15 D2 (io), 16 D1 (hiz), 17 D0 (io), 18 ADR1 (io), 19 ADR0 (io), 20 PAR/~{SER} (in), 21 BYTE (in), 22 R/~{C} (in), 23 ~{CS} (in), 24 ~{BUSY} (out), 25 CONTC (in), 26 PDN (in), 27 V2+ (power), 28 V1+ (power)

## ADS7824UB
designator U?
4 Channel, 12-Bit Sampling CMOS A/D Converter; Published: 8-Jun-2000; LatestRevisionDate: 13-Apr-2006; LatestRevisionNote: IPC-7351 Footprint Added.; DatasheetVersion: Oct-1997; PackageReference: 217G; Publisher: Altium Limited; PackageDescription: 28-Pin Small Outline Integrated Circuit 1.27 mm Pitch; ComponentLink1Description: Manufacturer Link; ComponentLink1URL: http://www.ti.com/; ComponentLink2Description: Datasheet; ComponentLink2URL: http://www-s.ti.com/sc/ds/ADS7824.pdf
footprint 217G_N (SOIC, 28-Leads, Body 17.9x7.5mm, Pitch 1.27mm, IPC Medium Density)
footprint 217G_L (SOIC, 28-Leads, Body 17.9x7.5mm, Pitch 1.27mm, IPC High Density)
footprint 217G_M (SOIC, 28-Leads, Body 17.9x7.5mm, Pitch 1.27mm, IPC Low Density)
3D model 217G (28-Pin Small Outline Integrated Circuit 1.27 mm Pitch)
pins: 1 AGND1 (power), 2 IN0 (in), 3 IN1 (in), 4 IN2 (in), 5 IN3 (in), 6 CAP, 7 REF (io), 8 AGND2 (power), 9 D7 (hiz), 10 D6 (hiz), 11 D5 (hiz), 12 D4 (io), 13 D3 (out), 14 DGND (power), 15 D2 (io), 16 D1 (hiz), 17 D0 (io), 18 ADR1 (io), 19 ADR0 (io), 20 PAR/~{SER} (in), 21 BYTE (in), 22 R/~{C} (in), 23 ~{CS} (in), 24 ~{BUSY} (out), 25 CONTC (in), 26 PDN (in), 27 V2+ (power), 28 V1+ (power)

## ADS7825P
designator U?
4 Channel, 16-Bit Sampling CMOS A/D Converter; Published: 8-Jun-2000; LatestRevisionDate: 06-Jun-2005; LatestRevisionNote: Stylized 3D Model Added.; DatasheetVersion: Oct-1997; PackageVersion: revD; PackageReference: 246D; Publisher: Altium Limited; PackageDescription: DIP; 28 Leads; Row Spacing 7.62 mm; Pitch 2.54 mm; ComponentLink1Description: Manufacturer Link; ComponentLink1URL: http://www.ti.com/; ComponentLink2Description: Datasheet; ComponentLink2URL: http://www-s.ti.com/sc/ds/ADS7825.pdf
footprint 246D (DIP; 28 Leads; Row Spacing 7.62 mm; Pitch 2.54 mm)
3D model 246D (DIP; 28 Leads; Row Spacing 7.62 mm; Pitch 2.54 mm)
pins: 1 AGND1 (power), 2 IN0 (in), 3 IN1 (in), 4 IN2 (in), 5 IN3 (in), 6 CAP, 7 REF (io), 8 AGND2 (power), 9 D7 (hiz), 10 D6 (hiz), 11 D5 (hiz), 12 D4 (io), 13 D3 (out), 14 DGND (power), 15 D2 (io), 16 D1 (hiz), 17 D0 (io), 18 ADR1 (io), 19 ADR0 (io), 20 PAR/~{SER} (in), 21 BYTE (in), 22 R/~{C} (in), 23 ~{CS} (in), 24 ~{BUSY} (out), 25 CONTC (in), 26 PDN (in), 27 V2+ (power), 28 V1+ (power)

## ADS7825PB
designator U?
4 Channel, 16-Bit Sampling CMOS A/D Converter; Published: 8-Jun-2000; LatestRevisionDate: 06-Jun-2005; LatestRevisionNote: Stylized 3D Model Added.; DatasheetVersion: Oct-1997; PackageVersion: revD; PackageReference: 246D; Publisher: Altium Limited; PackageDescription: DIP; 28 Leads; Row Spacing 7.62 mm; Pitch 2.54 mm; ComponentLink1Description: Manufacturer Link; ComponentLink1URL: http://www.ti.com/; ComponentLink2Description: Datasheet; ComponentLink2URL: http://www-s.ti.com/sc/ds/ADS7825.pdf
footprint 246D (DIP; 28 Leads; Row Spacing 7.62 mm; Pitch 2.54 mm)
3D model 246D (DIP; 28 Leads; Row Spacing 7.62 mm; Pitch 2.54 mm)
pins: 1 AGND1 (power), 2 IN0 (in), 3 IN1 (in), 4 IN2 (in), 5 IN3 (in), 6 CAP, 7 REF (io), 8 AGND2 (power), 9 D7 (hiz), 10 D6 (hiz), 11 D5 (hiz), 12 D4 (io), 13 D3 (out), 14 DGND (power), 15 D2 (io), 16 D1 (hiz), 17 D0 (io), 18 ADR1 (io), 19 ADR0 (io), 20 PAR/~{SER} (in), 21 BYTE (in), 22 R/~{C} (in), 23 ~{CS} (in), 24 ~{BUSY} (out), 25 CONTC (in), 26 PDN (in), 27 V2+ (power), 28 V1+ (power)

## ADS7825U
designator U?
4 Channel, 16-Bit Sampling CMOS A/D Converter; Published: 8-Jun-2000; LatestRevisionDate: 13-Apr-2006; LatestRevisionNote: IPC-7351 Footprint Added.; DatasheetVersion: Oct-1997; PackageReference: 217G; Publisher: Altium Limited; PackageDescription: 28-Pin Small Outline Integrated Circuit 1.27 mm Pitch; ComponentLink1Description: Manufacturer Link; ComponentLink1URL: http://www.ti.com/; ComponentLink2Description: Datasheet; ComponentLink2URL: http://www-s.ti.com/sc/ds/ADS7825.pdf
footprint 217G_N (SOIC, 28-Leads, Body 17.9x7.5mm, Pitch 1.27mm, IPC Medium Density)
footprint 217G_L (SOIC, 28-Leads, Body 17.9x7.5mm, Pitch 1.27mm, IPC High Density)
footprint 217G_M (SOIC, 28-Leads, Body 17.9x7.5mm, Pitch 1.27mm, IPC Low Density)
3D model 217G (28-Pin Small Outline Integrated Circuit 1.27 mm Pitch)
pins: 1 AGND1 (power), 2 IN0 (in), 3 IN1 (in), 4 IN2 (in), 5 IN3 (in), 6 CAP, 7 REF (io), 8 AGND2 (power), 9 D7 (hiz), 10 D6 (hiz), 11 D5 (hiz), 12 D4 (io), 13 D3 (out), 14 DGND (power), 15 D2 (io), 16 D1 (hiz), 17 D0 (io), 18 ADR1 (io), 19 ADR0 (io), 20 PAR/~{SER} (in), 21 BYTE (in), 22 R/~{C} (in), 23 ~{CS} (in), 24 ~{BUSY} (out), 25 CONTC (in), 26 PDN (in), 27 V2+ (power), 28 V1+ (power)

## ADS7825UB
designator U?
4 Channel, 16-Bit Sampling CMOS A/D Converter; Published: 8-Jun-2000; LatestRevisionDate: 13-Apr-2006; LatestRevisionNote: IPC-7351 Footprint Added.; DatasheetVersion: Oct-1997; PackageReference: 217G; Publisher: Altium Limited; PackageDescription: 28-Pin Small Outline Integrated Circuit 1.27 mm Pitch; ComponentLink1Description: Manufacturer Link; ComponentLink1URL: http://www.ti.com/; ComponentLink2Description: Datasheet; ComponentLink2URL: http://www-s.ti.com/sc/ds/ADS7825.pdf
footprint 217G_N (SOIC, 28-Leads, Body 17.9x7.5mm, Pitch 1.27mm, IPC Medium Density)
footprint 217G_L (SOIC, 28-Leads, Body 17.9x7.5mm, Pitch 1.27mm, IPC High Density)
footprint 217G_M (SOIC, 28-Leads, Body 17.9x7.5mm, Pitch 1.27mm, IPC Low Density)
3D model 217G (28-Pin Small Outline Integrated Circuit 1.27 mm Pitch)
pins: 1 AGND1 (power), 2 IN0 (in), 3 IN1 (in), 4 IN2 (in), 5 IN3 (in), 6 CAP, 7 REF (io), 8 AGND2 (power), 9 D7 (hiz), 10 D6 (hiz), 11 D5 (hiz), 12 D4 (io), 13 D3 (out), 14 DGND (power), 15 D2 (io), 16 D1 (hiz), 17 D0 (io), 18 ADR1 (io), 19 ADR0 (io), 20 PAR/~{SER} (in), 21 BYTE (in), 22 R/~{C} (in), 23 ~{CS} (in), 24 ~{BUSY} (out), 25 CONTC (in), 26 PDN (in), 27 V2+ (power), 28 V1+ (power)

## ADS7831P
designator U?
12-Bit, 600KHz Sampling CMOS Analog-to-Digital Converter; Note: Pin 19 is No internal Connection (NC) pin.; Published: 8-Jun-2000; LatestRevisionDate: 06-Jun-2005; LatestRevisionNote: Stylized 3D Model Added.; DatasheetVersion: Mar-1995; PackageVersion: revD; PackageReference: 246D; Publisher: Altium Limited; PackageDescription: DIP; 28 Leads; Row Spacing 7.62 mm; Pitch 2.54 mm; ComponentLink1Description: Manufacturer Link; ComponentLink1URL: http://www.ti.com/; ComponentLink2Description: Datasheet; ComponentLink2URL: http://www-s.ti.com/sc/ds/ADS7831.pdf
footprint 246D (DIP; 28 Leads; Row Spacing 7.62 mm; Pitch 2.54 mm)
3D model 246D (DIP; 28 Leads; Row Spacing 7.62 mm; Pitch 2.54 mm)
pins: 1 IN (in), 2 AGND1 (power), 3 REF (io), 4 CAP (out), 5 AGND2 (power), 6 D11 (hiz), 7 D10 (hiz), 8 D9 (hiz), 9 D8 (hiz), 10 D7 (hiz), 11 D6 (hiz), 12 D5 (hiz), 13 D4 (hiz), 14 DGND (power), 15 D3 (hiz), 16 D2 (hiz), 17 D1 (hiz), 18 D0 (hiz), 19 NC, 20 V+ (power), 21 VD+ (power), 22 DGND (power), 23 R/~{C} (in), 24 ~{CS} (in), 25 ~{BUSY} (out), 26 V- (power), 27 VD+ (power), 28 V+ (power)

## ADS7831U
designator U?
12-Bit, 600KHz Sampling CMOS Analog-to-Digital Converter; Note: Pin 19 is No internal Connection (NC) pin.; Published: 8-Jun-2000; LatestRevisionDate: 13-Apr-2006; LatestRevisionNote: IPC-7351 Footprint Added.; DatasheetVersion: Mar-1995; PackageReference: 217G; Publisher: Altium Limited; PackageDescription: 28-Pin Small Outline Integrated Circuit 1.27 mm Pitch; ComponentLink1Description: Manufacturer Link; ComponentLink1URL: http://www.ti.com/; ComponentLink2Description: Datasheet; ComponentLink2URL: http://www-s.ti.com/sc/ds/ADS7831.pdf
footprint 217G_N (SOIC, 28-Leads, Body 17.9x7.5mm, Pitch 1.27mm, IPC Medium Density)
footprint 217G_L (SOIC, 28-Leads, Body 17.9x7.5mm, Pitch 1.27mm, IPC High Density)
footprint 217G_M (SOIC, 28-Leads, Body 17.9x7.5mm, Pitch 1.27mm, IPC Low Density)
3D model 217G (28-Pin Small Outline Integrated Circuit 1.27 mm Pitch)
pins: 1 IN (in), 2 AGND1 (power), 3 REF (io), 4 CAP (out), 5 AGND2 (power), 6 D11 (hiz), 7 D10 (hiz), 8 D9 (hiz), 9 D8 (hiz), 10 D7 (hiz), 11 D6 (hiz), 12 D5 (hiz), 13 D4 (hiz), 14 DGND (power), 15 D3 (hiz), 16 D2 (hiz), 17 D1 (hiz), 18 D0 (hiz), 19 NC, 20 V+ (power), 21 VD+ (power), 22 DGND (power), 23 R/~{C} (in), 24 ~{CS} (in), 25 ~{BUSY} (out), 26 V- (power), 27 VD+ (power), 28 V+ (power)

## DDC101P
designator U?
20-Bit Analog-to-Digital Converter; Note: Pins 7, 8, 21 and 22 are No internal Connection (NC) pins.; Published: 8-Jun-2000; LatestRevisionDate: 06-Jun-2005; LatestRevisionNote: Stylized 3D Model Added.; DatasheetVersion: 1996~1997; PackageVersion: revJ; PackageReference: 215J; Publisher: Altium Limited; PackageDescription: DIP; 28 Leads; Row Spacing 15.24 mm; Pitch 2.54 mm; Code_JEDEC: MS-011-AB; ComponentLink1Description: Manufacturer Link; ComponentLink1URL: http://www.ti.com/; ComponentLink2Description: Datasheet; ComponentLink2URL: http://www-s.ti.com/sc/ds/ddc101.pdf
footprint 215J (DIP; 28 Leads; Row Spacing 15.24 mm; Pitch 2.54 mm)
3D model 215J (DIP; 28 Leads; Row Spacing 15.24 mm; Pitch 2.54 mm)
pins: 1 V- (power), 2 AGND (power), 3 IN (in), 4 AGND (power), 5 V+ (power), 6 V+ (power), 7 NC, 8 NC, 9 ~{RST SYS} (in), 10 ~{FDS} (in), 11 SYSCLK (in), 12 DCLK (in), 13 DI (in), 14 VD+ (power), 15 DGND (power), 16 DO (hiz), 17 ~{DV} (out), 18 ~{OVF}- (oc), 19 ~{OVF}+ (oc), 20 ~{D TX} (in), 21 NC, 22 NC, 23 RD D/~{SETUP} (in), 24 SETUP (in), 25 ~{RST SETUP} (in), 26 TST IN (in), 27 VREF (in), 28 REF

## DDC101U
designator U?
20-Bit Analog-to-Digital Converter; Published: 8-Jun-2000; LatestRevisionDate: 13-Apr-2006; LatestRevisionNote: IPC-7351 Footprint Added.; DatasheetVersion: Mar-1998; PackageReference: 239E; Publisher: Altium Limited; PackageDescription: 24-Pin Small Outline Integrated Circuit 1.27 mm Pitch; ComponentLink1Description: Manufacturer Link; ComponentLink1URL: http://www.ti.com/; ComponentLink2Description: Datasheet; ComponentLink2URL: http://www-s.ti.com/sc/ds/DDC101.pdf
footprint 239E_N (SOIC, 24-Leads, Body 15.4x7.5mm, Pitch 1.27mm, IPC Medium Density)
footprint 239E_L (SOIC, 24-Leads, Body 15.4x7.5mm, Pitch 1.27mm, IPC High Density)
footprint 239E_M (SOIC, 24-Leads, Body 15.4x7.5mm, Pitch 1.27mm, IPC Low Density)
3D model 239 (24-Pin Small Outline Integrated Circuit 1.27 mm Pitch)
pins: 1 V- (power), 2 AGND (power), 3 IN (in), 4 AGND (power), 5 V+ (power), 6 V+ (power), 7 ~{RST SYS} (in), 8 ~{FDS} (in), 9 SYSCLK (in), 10 DCLK (in), 11 DI (in), 12 VD+ (power), 13 DGND (power), 14 DO (hiz), 15 ~{DV} (out), 16 ~{OVF}- (oc), 17 ~{OVF}+ (oc), 18 ~{D TX} (in), 19 RD D~{/SETUP} (in), 20 SETUP (in), 21 ~{RST SETUP} (in), 22 TST IN (in), 23 VREF (in), 24 REF

## DF1760P
designator U?
Multi-Bit Enhanced Noise Shaping 20-Bit Analog-to-Digital Conversion System; ComponentAvailability: Not for New Design; Published: 8-Jun-2000; LatestRevisionDate: 06-Jun-2005; LatestRevisionNote: Stylized 3D Model Added.; DatasheetVersion: 1994; PackageReference: 173-2J; Publisher: Altium Limited; PackageDescription: DIP; 28 Leads; Row Spacing 15.24 mm; Pitch 2.54 mm; ComponentLink1Description: Manufacturer Link; ComponentLink1URL: http://www.ti.com/; ComponentLink2Description: Datasheet; ComponentLink2URL: http://www-s.ti.com/sc/ds/df1760.pdf
footprint 173-2J (DIP; 28 Leads; Row Spacing 15.24 mm; Pitch 2.54 mm)
3D model 149 (DIP; 28 Leads; Row Spacing 15.24 mm; Pitch 2.54 mm)
pins: 1 OVL (out), 2 OVR (out), 3 D3 (in), 4 D2 (in), 5 D1 (in), 6 D0 (in), 7 TP1, 8 GND1 (power), 9 V1+ (power), 10 256FS (out), 11 STB (in), 12 L/RCLK (in), 13 ~{CALE} (in), 14 CAL (out), 15 SYSCLK (in), 16 SCLK (io), 17 L/R (io), 18 SD (out), 19 FSYNC (io), 20 LRSC (in), 21 ~{PD} (in), 22 M2 (in), 23 M1 (in), 24 S/~{M} (in), 25 CLKSEL (in), 26 TP2, 27 V2+ (power), 28 GND2 (power)

## DF1760U
designator U?
Multi-Bit Enhanced Noise Shaping 20-Bit Analog-to-Digital Conversion System; ComponentAvailability: Not for New Design; Published: 8-Jun-2000; LatestRevisionDate: 13-Apr-2006; LatestRevisionNote: IPC-7351 Footprint Added.; DatasheetVersion: 1994; PackageReference: 217-3J; Publisher: Altium Limited; PackageDescription: 28-Pin Small Outline Integrated Circuit 1.27 mm Pitch; Code_IPC: SOIC127P1199-28; ComponentLink1Description: Manufacturer Link; ComponentLink1URL: http://www.ti.com/; ComponentLink2Description: Datasheet; ComponentLink2URL: http://www-s.ti.com/sc/ds/df1760.pdf
footprint 217-3J_N (SOIC, 28-Leads, Body 18.3x8.4mm, Pitch 1.27mm, IPC Medium Density)
footprint 217-3J_L (SOIC, 28-Leads, Body 18.3x8.4mm, Pitch 1.27mm, IPC High Density)
footprint 217-3J_M (SOIC, 28-Leads, Body 18.3x8.4mm, Pitch 1.27mm, IPC Low Density)
3D model 217-3 (28-Pin Small Outline Integrated Circuit 1.27 mm Pitch)
pins: 1 OVL (out), 2 OVR (out), 3 D3 (in), 4 D2 (in), 5 D1 (in), 6 D0 (in), 7 TP1, 8 GND1 (power), 9 V1+ (power), 10 256FS (out), 11 STB (in), 12 L/RCLK (in), 13 ~{CALE} (in), 14 CAL (out), 15 SYSCLK (in), 16 SCLK (io), 17 L/R (io), 18 SD (out), 19 FSYNC (io), 20 LRSC (in), 21 ~{PD} (in), 22 M2 (in), 23 M1 (in), 24 S/~{M} (in), 25 CLKSEL (in), 26 TP2, 27 V2+ (power), 28 GND2 (power)

## DSP101JP
designator U?
DSP-Compatible Sampling Single/Dual Analog-to-Digital Converters; Note: Pins 17, 19, 23, 24 and 25 are No internal Connection (NC) pins.; Published: 8-Jun-2000; LatestRevisionDate: 06-Jun-2005; LatestRevisionNote: Stylized 3D Model Added.; DatasheetVersion: Oct-1993; PackageVersion: revJ; PackageReference: 215J; Publisher: Altium Limited; PackageDescription: DIP; 28 Leads; Row Spacing 15.24 mm; Pitch 2.54 mm; Code_JEDEC: MS-011-AB; ComponentLink1Description: Manufacturer Link; ComponentLink1URL: http://www.ti.com/; ComponentLink2Description: Datasheet; ComponentLink2URL: http://www-s.ti.com/sc/ds/DSP101.pdf
footprint 215J (DIP; 28 Leads; Row Spacing 15.24 mm; Pitch 2.54 mm)
3D model 215J (DIP; 28 Leads; Row Spacing 15.24 mm; Pitch 2.54 mm)
pins: 1 VPOT (out), 2 IN (in), 3 MSB, 4 VOS, 5 V- (power), 6 V+ (power), 7 DGND (power), 8 DGND (power), 9 VD+ (power), 10 CLKI (in), 11 CLKO (out), 12 SSF (in), 13 OSC1 (in), 14 OSC2 (out), 15 SYNC (out), 16 XCLK (in), 17 NC, 18 TAG (in), 19 NC, 20 SDO (out), 21 CONV (in), 22 DGND (power), 23 NC, 24 NC, 25 NC, 26 CAP, 27 REF, 28 AGND (power)

## DSP101KP
designator U?
DSP-Compatible Sampling Single/Dual Analog-to-Digital Converters; Note: Pins 17, 19, 23, 24 and 25 are No internal Connection (NC) pins.; Published: 8-Jun-2000; LatestRevisionDate: 06-Jun-2005; LatestRevisionNote: Stylized 3D Model Added.; DatasheetVersion: Oct-1993; PackageVersion: revJ; PackageReference: 215J; Publisher: Altium Limited; PackageDescription: DIP; 28 Leads; Row Spacing 15.24 mm; Pitch 2.54 mm; Code_JEDEC: MS-011-AB; ComponentLink1Description: Manufacturer Link; ComponentLink1URL: http://www.ti.com/; ComponentLink2Description: Datasheet; ComponentLink2URL: http://www-s.ti.com/sc/ds/DSP101.pdf
footprint 215J (DIP; 28 Leads; Row Spacing 15.24 mm; Pitch 2.54 mm)
3D model 215J (DIP; 28 Leads; Row Spacing 15.24 mm; Pitch 2.54 mm)
pins: 1 VPOT (out), 2 IN (in), 3 MSB, 4 VOS, 5 V- (power), 6 V+ (power), 7 DGND (power), 8 DGND (power), 9 VD+ (power), 10 CLKI (in), 11 CLKO (out), 12 SSF (in), 13 OSC1 (in), 14 OSC2 (out), 15 SYNC (out), 16 XCLK (in), 17 NC, 18 TAG (in), 19 NC, 20 SDO (out), 21 CONV (in), 22 DGND (power), 23 NC, 24 NC, 25 NC, 26 CAP, 27 REF, 28 AGND (power)

## DSP102JP
designator U?
DSP-Compatible Sampling Single/Dual Analog-to-Digital Converters; Published: 8-Jun-2000; LatestRevisionDate: 06-Jun-2005; LatestRevisionNote: Stylized 3D Model Added.; DatasheetVersion: Oct-1993; PackageVersion: revJ; PackageReference: 215J; Publisher: Altium Limited; PackageDescription: DIP; 28 Leads; Row Spacing 15.24 mm; Pitch 2.54 mm; Code_JEDEC: MS-011-AB; ComponentLink1Description: Manufacturer Link; ComponentLink1URL: http://www.ti.com/; ComponentLink2Description: Datasheet; ComponentLink2URL: http://www-s.ti.com/sc/ds/DSP101.pdf
footprint 215J (DIP; 28 Leads; Row Spacing 15.24 mm; Pitch 2.54 mm)
3D model 215J (DIP; 28 Leads; Row Spacing 15.24 mm; Pitch 2.54 mm)
pins: 1 VPOTA (out), 2 INA (in), 3 MSBA, 4 VOSA, 5 V- (power), 6 V+ (power), 7 DGND (power), 8 DGND (power), 9 VD+ (power), 10 CLKI (in), 11 CLKO (out), 12 SSF (in), 13 OSC1 (in), 14 OSC2 (out), 15 SYNC (out), 16 XCLK (in), 17 SDOB (out), 18 TAGA (in), 19 TAGB (in), 20 SDOA (out), 21 CONV (in), 22 CASC (in), 23 VOSB (in), 24 MSBB (in), 25 INB (in), 26 VPOTB, 27 REF, 28 AGND (power)

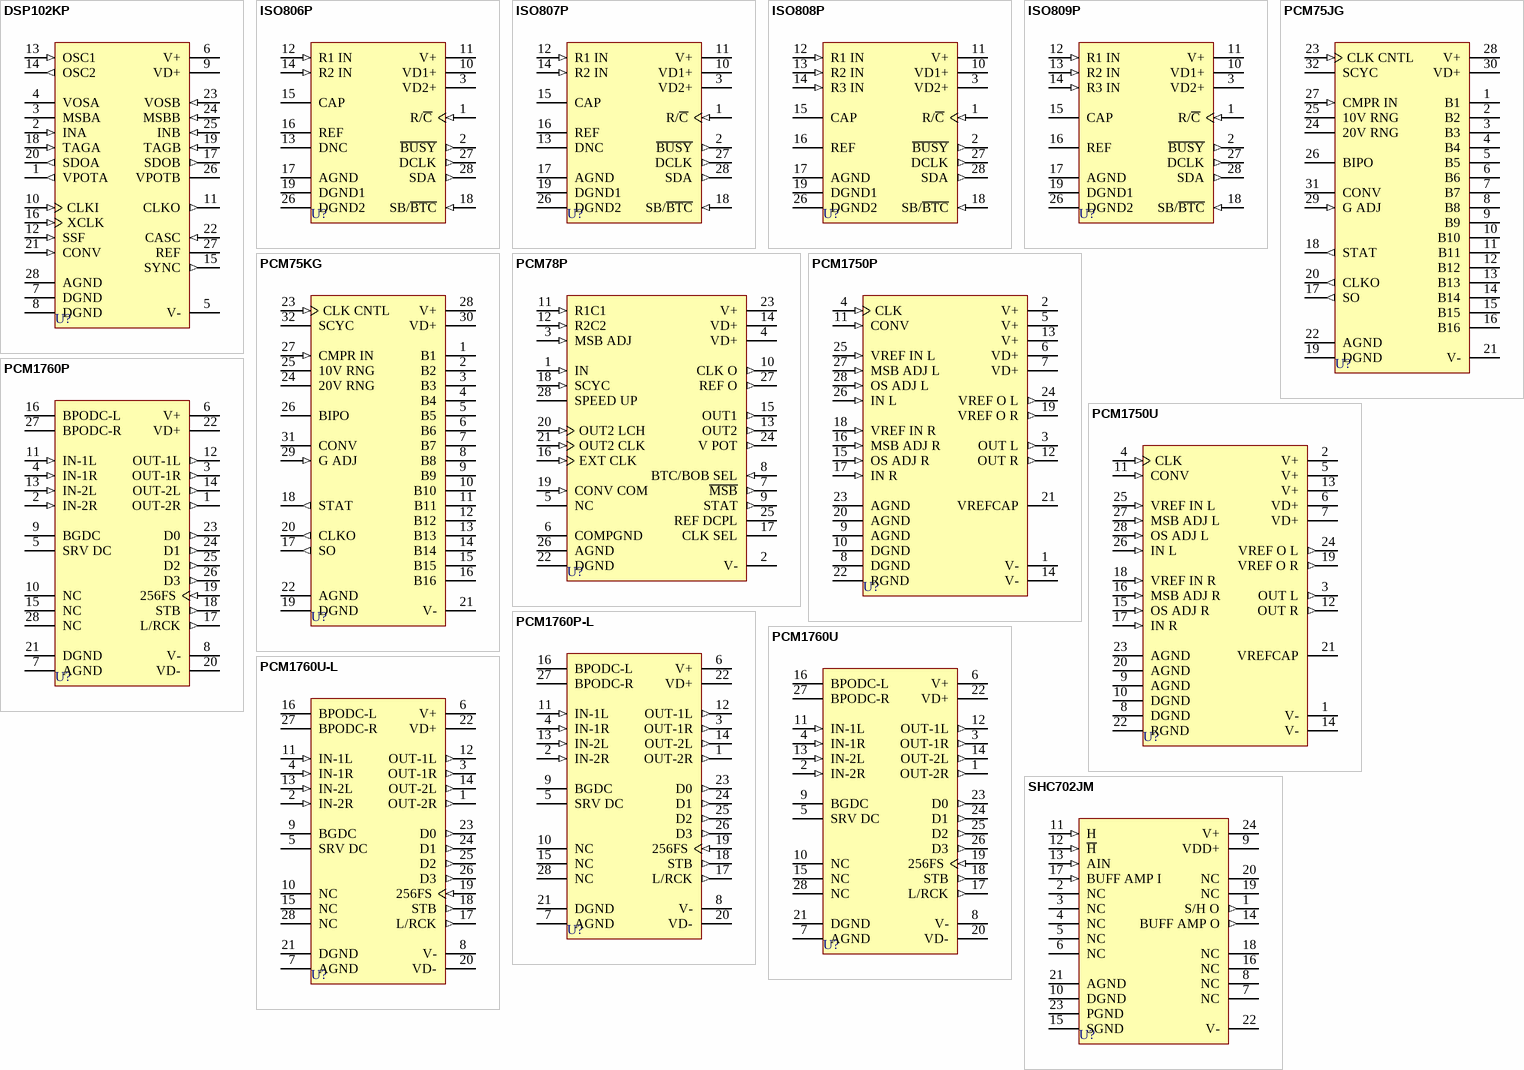
[diagram p9: symbols DSP102KP to SHC702JM]

## DSP102KP
designator U?
DSP-Compatible Sampling Single/Dual Analog-to-Digital Converters; Published: 8-Jun-2000; LatestRevisionDate: 06-Jun-2005; LatestRevisionNote: Stylized 3D Model Added.; DatasheetVersion: Oct-1993; PackageVersion: revJ; PackageReference: 215J; Publisher: Altium Limited; PackageDescription: DIP; 28 Leads; Row Spacing 15.24 mm; Pitch 2.54 mm; Code_JEDEC: MS-011-AB; ComponentLink1Description: Manufacturer Link; ComponentLink1URL: http://www.ti.com/; ComponentLink2Description: Datasheet; ComponentLink2URL: http://www-s.ti.com/sc/ds/DSP101.pdf
footprint 215J (DIP; 28 Leads; Row Spacing 15.24 mm; Pitch 2.54 mm)
3D model 215J (DIP; 28 Leads; Row Spacing 15.24 mm; Pitch 2.54 mm)
pins: 1 VPOTA (out), 2 INA (in), 3 MSBA, 4 VOSA, 5 V- (power), 6 V+ (power), 7 DGND (power), 8 DGND (power), 9 VD+ (power), 10 CLKI (in), 11 CLKO (out), 12 SSF (in), 13 OSC1 (in), 14 OSC2 (out), 15 SYNC (out), 16 XCLK (in), 17 SDOB (out), 18 TAGA (in), 19 TAGB (in), 20 SDOA (out), 21 CONV (in), 22 CASC (in), 23 VOSB (in), 24 MSBB (in), 25 INB (in), 26 VPOTB, 27 REF, 28 AGND (power)

## ISO806P
designator U?
Isolated 12-Bit Sampling Analog-to-Digital Converter; Note: No pins present at positions 4 to 9 and 20 to 25. Leave Pin 13 Unconnected; Published: 8-Jun-2000; LatestRevisionDate: 06-Jun-2005; LatestRevisionNote: Stylized 3D Model Added.; DatasheetVersion: 1996~1997; PackageVersion: 1996/1997; PackageReference: 215-1B; Publisher: Altium Limited; PackageDescription: DIP; 28 Leads (12 Absent); Row Spacing 15.24 mm; Pitch 2.54 mm; ComponentLink1Description: Manufacturer Link; ComponentLink1URL: http://www.ti.com/
footprint 215-1B (DIP; 28 Leads (12 Absent); Row Spacing 15.24 mm; Pitch 2.54 mm)
3D model 215-1B (DIP; 28 Leads (12 Absent); Row Spacing 15.24 mm; Pitch 2.54 mm)
pins: 1 R/~{C} (in), 2 ~{BUSY} (out), 3 VD2+ (power), 10 VD1+ (power), 11 V+ (power), 12 R1 IN (in), 13 DNC, 14 R2 IN (in), 15 CAP, 16 REF, 17 AGND (power), 18 SB/~{BTC} (in), 19 DGND1 (power), 26 DGND2 (power), 27 DCLK (out), 28 SDA (out)

## ISO807P
designator U?
Isolated 16-Bit Sampling Analog-to-Digital Converter; Note: No pins present at positions 4 to 9 and 20 to 25. Leave Pin 13 Unconnected; Published: 8-Jun-2000; LatestRevisionDate: 06-Jun-2005; LatestRevisionNote: Stylized 3D Model Added.; DatasheetVersion: 1996~1997; PackageVersion: 1996/1997; PackageReference: 215-1B; Publisher: Altium Limited; PackageDescription: DIP; 28 Leads (12 Absent); Row Spacing 15.24 mm; Pitch 2.54 mm; ComponentLink1Description: Manufacturer Link; ComponentLink1URL: http://www.ti.com/
footprint 215-1B (DIP; 28 Leads (12 Absent); Row Spacing 15.24 mm; Pitch 2.54 mm)
3D model 215-1B (DIP; 28 Leads (12 Absent); Row Spacing 15.24 mm; Pitch 2.54 mm)
pins: 1 R/~{C} (in), 2 ~{BUSY} (out), 3 VD2+ (power), 10 VD1+ (power), 11 V+ (power), 12 R1 IN (in), 13 DNC, 14 R2 IN (in), 15 CAP, 16 REF, 17 AGND (power), 18 SB/~{BTC} (in), 19 DGND1 (power), 26 DGND2 (power), 27 DCLK (out), 28 SDA (out)

## ISO808P
designator U?
Isolated 12-Bit Sampling Analog-to-Digital Converter; Note: No pins present at positions 4 to 9 and 20 to 25.; Published: 8-Jun-2000; LatestRevisionDate: 06-Jun-2005; LatestRevisionNote: Stylized 3D Model Added.; DatasheetVersion: 1996~1997; PackageVersion: 1996/1997; PackageReference: 215-1B; Publisher: Altium Limited; PackageDescription: DIP; 28 Leads (12 Absent); Row Spacing 15.24 mm; Pitch 2.54 mm; ComponentLink1Description: Manufacturer Link; ComponentLink1URL: http://www.ti.com/
footprint 215-1B (DIP; 28 Leads (12 Absent); Row Spacing 15.24 mm; Pitch 2.54 mm)
3D model 215-1B (DIP; 28 Leads (12 Absent); Row Spacing 15.24 mm; Pitch 2.54 mm)
pins: 1 R/~{C} (in), 2 ~{BUSY} (out), 3 VD2+ (power), 10 VD1+ (power), 11 V+ (power), 12 R1 IN (in), 13 R2 IN (in), 14 R3 IN (in), 15 CAP, 16 REF, 17 AGND (power), 18 SB/~{BTC} (in), 19 DGND1 (power), 26 DGND2 (power), 27 DCLK (out), 28 SDA (out)

## ISO809P
designator U?
Isolated 16-Bit Sampling Analog-to-Digital Converter; Note: No pins present at positions 4 to 9 and 20 to 25.; Published: 8-Jun-2000; LatestRevisionDate: 06-Jun-2005; LatestRevisionNote: Stylized 3D Model Added.; DatasheetVersion: 1996~1997; PackageVersion: 1996/1997; PackageReference: 215-1B; Publisher: Altium Limited; PackageDescription: DIP; 28 Leads (12 Absent); Row Spacing 15.24 mm; Pitch 2.54 mm; ComponentLink1Description: Manufacturer Link; ComponentLink1URL: http://www.ti.com/
footprint 215-1B (DIP; 28 Leads (12 Absent); Row Spacing 15.24 mm; Pitch 2.54 mm)
3D model 215-1B (DIP; 28 Leads (12 Absent); Row Spacing 15.24 mm; Pitch 2.54 mm)
pins: 1 R/~{C} (in), 2 ~{BUSY} (out), 3 VD2+ (power), 10 VD1+ (power), 11 V+ (power), 12 R1 IN (in), 13 R2 IN (in), 14 R3 IN (in), 15 CAP, 16 REF, 17 AGND (power), 18 SB/~{BTC} (in), 19 DGND1 (power), 26 DGND2 (power), 27 DCLK (out), 28 SDA (out)